# Altium integrated library SMBJ8.0CA.IntLib: 1 symbol
Pins are listed as number, name and electrical type; pins without a type are passive.

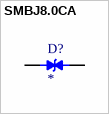
[diagram p0: symbol SMBJ8.0CA]

## SMBJ8.0CA
designator D?
600W, 9.4V, 5%, Bidirectional, TVS; MF: Taiwan Semiconductor; MP: SMBJ8.0CA; SnapEDA_Link: https://www.snapeda.com/parts/SMBJ8.0CA/taiwan/view-part/?ref=snap; Package: SMB Taiwan Semiconductor; Value: *; Check_prices: https://www.snapeda.com/parts/SMBJ8.0CA/taiwan/view-part/?ref=eda
footprint DIOM4336X265N
pins: 1, 2